# Altium schematic symbol library RC0402JR-070RL.SchLib: 1 symbol
Pins are listed as number, name and electrical type; pins without a type are passive.

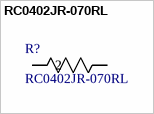
[diagram p0: symbol RC0402JR-070RL]

## RC0402JR-070RL
designator R?
RES; SMT (0402); 0; 5%; JUMPER; 0.0630W; Manufacturer_Name: Yageo; Copyright: Copyright (C) 2025 Ultra Librarian. All rights reserved.; Manufacturer_Part_Number: RC0402JR-070RL
footprint RC0402N_YAG
pins: 1, 2